# Altium schematic symbol library Other.SchLib: 4 symbols
Pins are listed as number, name and electrical type; pins without a type are passive.

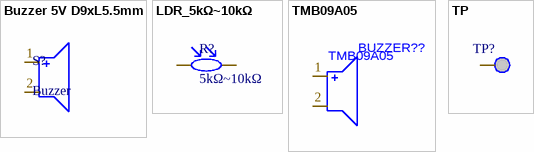
[diagram p0: symbols Buzzer 5V D9xL5.5mm to TP]

## Buzzer 5V D9xL5.5mm
designator S?, comment Buzzer
Active Buzzer (Built-in Driving Circuit) 2.7kHz 5V Electromagnetic Through Hole,D9xL5.5mm Alarms, Buzzers, and Sirens RoHS; Manufacturer: XHXDZ; MPN: TMB09A05; Internal_PN: Buzzer 5V D9xL5.5mm; Value: Buzzer; Package: Through Hole,D9xL5.5mm; Supplier: LCSC; LCSC_Part: C49246939; Note: https://www.lcsc.com/product-detail/C49246939.html?s_z=n_q_tmb09a05&spm=wm.fly.bg.0.xh&lcsc_vid=FFlaVlZURFlbX1EAE1lbUlZfQwdeBlBRQ1VZBFdQQwUxVlNeQ1RdVF1WRFJaVTsOAxUeFF5JWBYZEEoKFBINSQcJGk4eFQsCAgIaSgADAwAHC0slRlNbUVdUWQkaCgg%3D
footprint TMB09A05 (Active Buzzer (Built-in Driving Circuit) 2.7kHz 5V Electromagnetic Through Hole,D9xL5.5mm Alarms, Buzzers, and Sirens RoHS)
pins: 1, 2

## LDR_5kΩ~10kΩ
designator R?, comment 5kΩ~10kΩ
540nm 5kΩ~10kΩ 600kΩ Through Hole,P=2.2mm Photoresistors RoHS; Manufacturer: Senba Sensing Tech; MPN: GL4516; Internal_PN: LDR_5kΩ~10kΩ; Part_Name: LDR_5kΩ~10kΩ; Value: 5kΩ~10kΩ; Package: Through Hole,P=2.2mm; Supplier: LCSC; LCSC_Part: C125632; Note: https://www.lcsc.com/product-detail/C125632.html?s_z=n_q_GL4516&spm=wm.fly.bg.0.xh&lcsc_vid=FFlaVlZURFlbX1EAE1lbUlZfQwdeBlBRQ1VZBFdQQwUxVlNeQ1RdVVdQR1lWVDsOAxUeFF5JWBYZEEoKFBINSQcJGk4dAgUUFAk%3D
footprint LDR_5kO~10kO (Footprint not found)
pins: 1, 2

## TMB09A05
designator BUZZER??
Active Buzzer (Built-in Driving Circuit) 2.7kHz 5V Electromagnetic Through Hole,D9xL5.5mm Alarms, Buzzers, and Sirens RoHS; Manufacturer: XHXDZ; MPN: TMB09A05; LCSC Part #: C49246939; Packaging: Through Hole,D9xL5.5mm; link: https://www.lcsc.com/product-detail/C49246939.html?s_z=n_q_tmb09a05&spm=wm.fly.bg.0.xh&lcsc_vid=FFlaVlZURFlbX1EAE1lbUlZfQwdeBlBRQ1VZBFdQQwUxVlNeQ1RdV1JUQVFaUzsOAxUeFF5JWBYZEEoKFBINSQcJGk4%3D
footprint TMB09A05 (Active Buzzer (Built-in Driving Circuit) 2.7kHz 5V Electromagnetic Through Hole,D9xL5.5mm Alarms, Buzzers, and Sirens RoHS)
pins: 1, 2

## TP
designator TP?
footprint TP
pins: 1